# EAGLE library part TCS3200 (library ts3200)
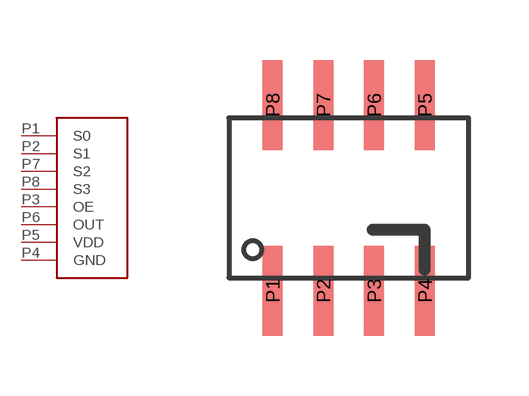
[diagram p0: symbol with the pads of SOIC8; footprint SOIC8]

Designator prefix -

## TCS3200  [SOIC8]
P1  S0
P2  S1
P3  OE
P4  GND
P5  VDD
P6  OUT
P7  S2
P8  S3

## Footprint SOIC8 (pad centres in mm)
smd 0.5 x 2.25: P1 -1.905,-2.325; P2 -0.635,-2.325; P3 0.635,-2.325; P4 1.905,-2.325; P5 1.905,2.325; P6 0.635,2.325; P7 -0.635,2.325; P8 -1.905,2.325